# Altium footprint library moya.PcbLib: 46 footprints (part 1 of 3)
Each footprint in its own frame and in the unit in brackets; x right, y up, seen from the top. Pads: shape width x height; smd on the part's side, far side on the other; paste and mask are expansions set on the pad; w line width, h text height; cw(c..) or ccw(c..) is an arc to the next point about the centre after c.
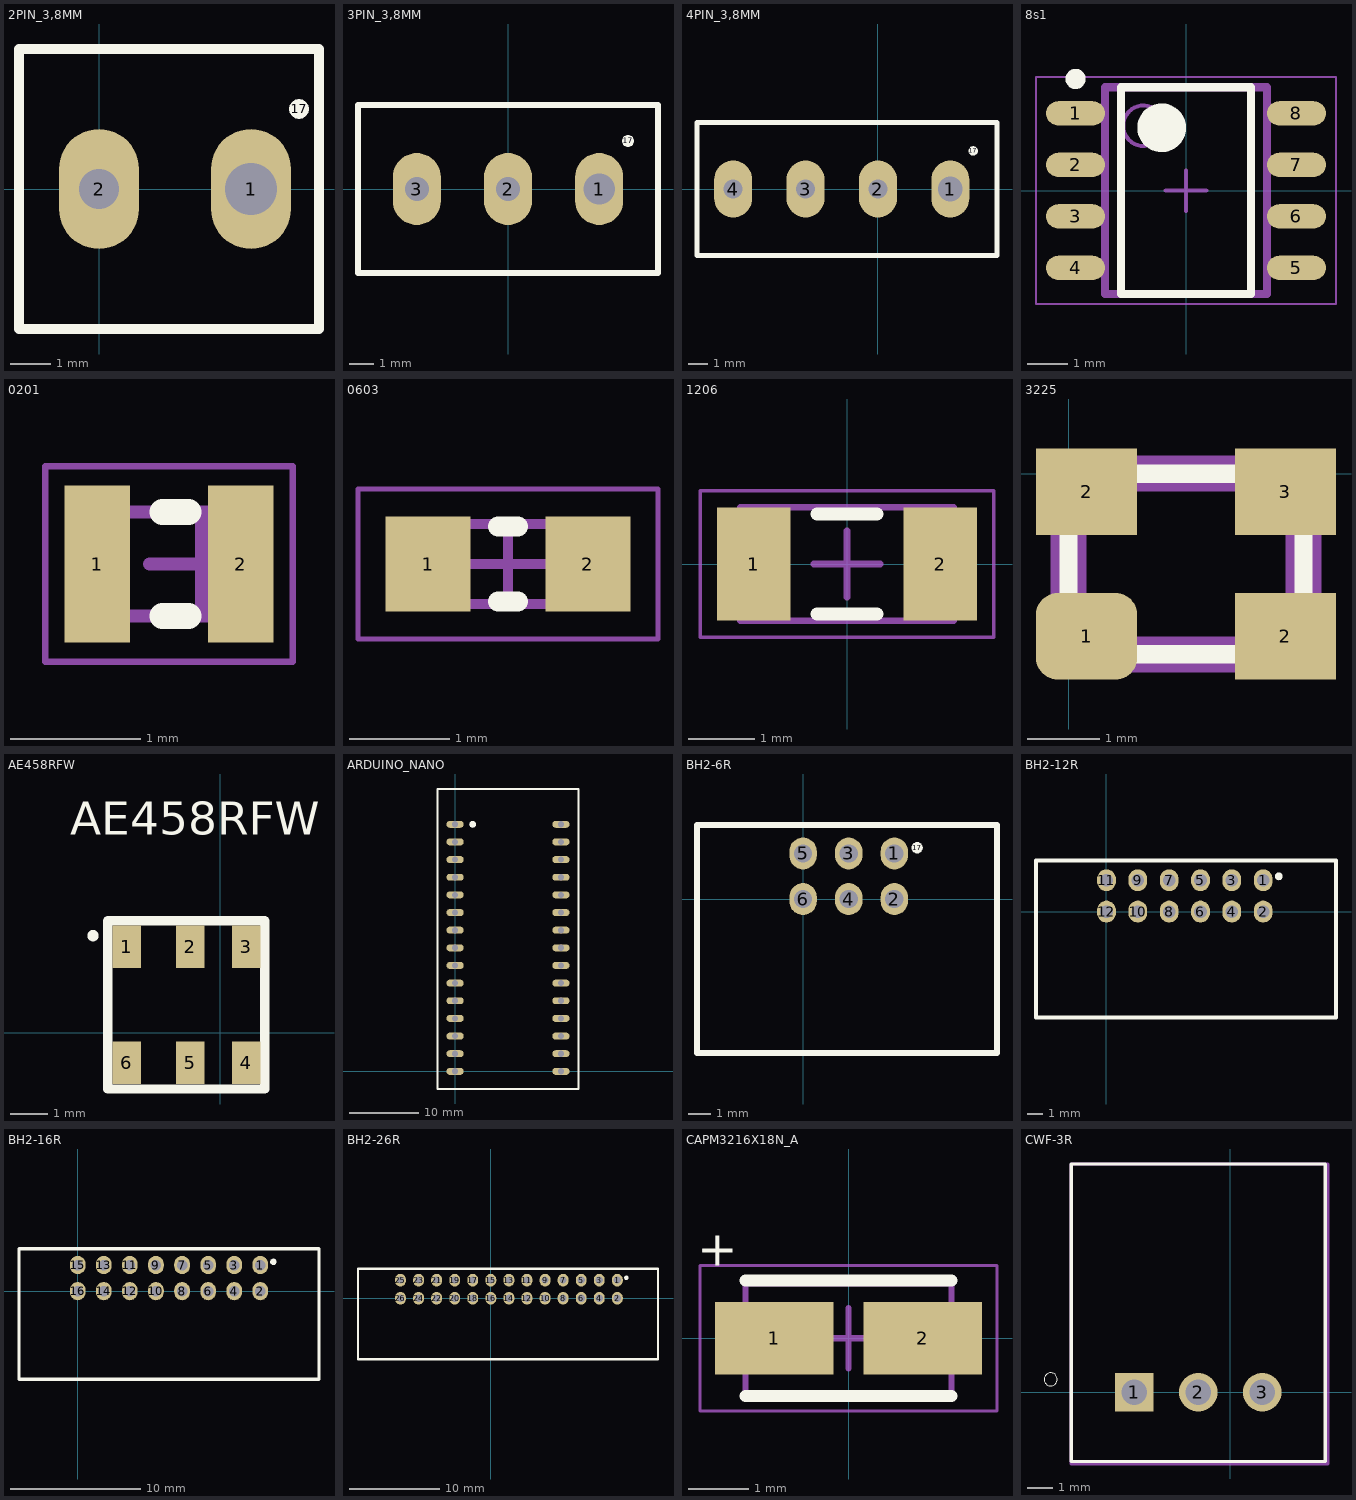
[diagram p0: the footprints below, top view; thin cyan lines are the x and y axes]

## 2PIN_3,8MM [mm]
pads (3):
  oval 2x3 hole 1.3: 1(3.8,0)
  oval 2x3 hole 1: 2(0,0)
  round 0.5 on Top Overlay: 17(5,2)
Top Overlay:
  lines w0.254: -2,-3.5 -2,3.5 5.5,3.5 5.5,-3.5 -2,-3.5
3D body "User Library-KLS2-340-3_81-1.STEP": height 8.5, standoff -3.17, extent -2.415,-3.5 6.205,3.5

## 3PIN_3,8MM [mm]
pads (4):
  oval 2x3 hole 1.3: 1(3.8,0)
  oval 2x3 hole 1: 2(0,0) 3(-3.8,0)
  round 0.5 on Top Overlay: 17(5,2)
Top Overlay:
  lines w0.254: -6.25,-3.5 6.25,-3.5 6.25,3.5 -6.25,3.5 -6.25,-3.5
3D body "User Library-KLS2-340-3_81.STEP": height 8.6, standoff -3.07, extent -6.215,-3.5 6.215,3.5

## 4PIN_3,8MM [mm]
pads (5):
  oval 2x3 hole 1.3: 1(3.8,0)
  oval 2x3 hole 1: 2(0,0) 3(-3.8,0) 4(-7.6,0)
  round 0.5 on Top Overlay: 17(5,2)
Top Overlay:
  lines w0.254: -9.5,-3.5 6.25,-3.5 6.25,3.5 -9.5,3.5 -9.5,-3.5
3D body "User Library-KLS2-340-3_81.STEP": height 8.6, standoff -3.07, extent -6.215,-3.5 6.215,3.5

## 8s1 [mm] "SOIC, 8-Leads, Body 4.92x3.90mm, Pitch 1.27mm, IPC Medium Density"
height 1.35
pads (8):
  oval 1.45x0.6 smd: 1(-2.725,1.905) 2(-2.725,0.635) 3(-2.725,-0.635) 4(-2.725,-1.905) 5(2.725,-1.905) 6(2.725,-0.635) 7(2.725,0.635) 8(2.725,1.905)
Top Overlay:
  circle w0.6: c-0.6,1.55 r0.3
  circle w0.25: c-2.725,2.755 r0.125
  lines w0.2: -1.6,-2.55 1.6,-2.55 1.6,2.55 -1.6,2.55 -1.6,-2.55
Mechanical 13:
  circle w0.1: c-1.05,1.6 r0.5
  lines w0.2: -2,-2.55 2,-2.55 2,2.55 -2,2.55 -2,-2.55
Mechanical 15:
  lines w0.05: -3.7,-2.8 3.7,-2.8 3.7,2.8 -3.7,2.8 -3.7,-2.8
  lines w0.1: -0.5,0 0.5,0 ; 0,-0.5 0,0.5
3D body: height 1.75, standoff 1.35, extent -2,-2.55 2,2.55

## 0201 [mm]
height 0.8
pads (2):
  rect 0.5x1.2 smd: 1(-4,1.9) 2(-2.9,1.9)
Top Overlay:
  lines w0.2: -3.5,1.5 -3.3,1.5 ; -3.5,2.3 -3.3,2.3
Mechanical 13:
  lines w0.1: -4.05,1.5 -4.05,2.3 -2.9,2.3 -2.9,1.5 -4.05,1.5
Mechanical 15:
  lines w0.05: -4.4,1.15 -4.4,2.65 -2.5,2.65 -2.5,1.15 -4.4,1.15
  lines w0.1: -3.6,1.9 -2.8,1.9 ; -3.2,1.5 -3.2,2.3
3D body: height 0.8, standoff 0, extent -3.1,1.5 -2.7,2.3
3D body: height 0.8, standoff 0, extent -3.65,1.5 -3.1,2.3
3D body: height 0.8, standoff 0, extent -4,1.5 -3.65,2.3

## 0603 [mm]
height 0.8
pads (2):
  rect 0.85x0.95 smd: 1(-4,1.9) 2(-2.4,1.9)
Top Overlay:
  lines w0.2: -3.3,1.525 -3.1,1.525 ; -3.3,2.275 -3.1,2.275
Mechanical 13:
  lines w0.1: -4.05,1.5 -2.35,1.5 -2.35,2.3 -4.05,2.3 -4.05,1.5
Mechanical 15:
  lines w0.05: -4.7,1.15 -1.7,1.15 -1.7,2.65 -4.7,2.65 -4.7,1.15
  lines w0.1: -3.6,1.9 -2.8,1.9 ; -3.2,1.5 -3.2,2.3
3D body: height 0.8, standoff 0, extent -2.75,1.5 -2.35,2.3
3D body: height 0.8, standoff 0, extent -4.05,1.5 -3.65,2.3
3D body: height 0.8, standoff 0, extent -3.65,1.5 -2.75,2.3

## 1206 [mm] "Chip Resistor"
height 0.55
pads (2):
  rect 1.1x1.7 smd: 1(-1.4,0) 2(1.4,0)
Top Overlay:
  lines w0.2: -0.45,-0.75 0.45,-0.75 ; -0.45,0.75 0.45,0.75
Mechanical 13:
  lines w0.1: -1.6,-0.85 -1.6,0.85 1.6,0.85 1.6,-0.85 -1.6,-0.85
Mechanical 15:
  lines w0.05: -2.2,-1.1 -2.2,1.1 2.2,1.1 2.2,-1.1 -2.2,-1.1
  lines w0.1: -0.5,0 0.5,0 ; 0,-0.5 0,0.5
3D body: height 0.55, standoff 0, extent -1,-0.85 1,0.85
3D body: height 0.55, standoff 0, extent -1.6,-0.85 -1,0.85
3D body: height 0.55, standoff 0, extent 1,-0.85 1.6,0.85

## 3225 [mm]
pads (4):
  rrect50% 1.4x1.2 smd: 1(0.25,-2.25)
  rect 1.4x1.2 smd: 2(0.25,-0.25) 2(3,-2.25) 3(3,-0.25)
Top Overlay:
  lines w0.254: 0,-2.5 0,0 3.25,0 3.25,-2.5 0,-2.5
Mechanical 13:
  lines w0.5: 3.25,-2.5 0,-2.5 0,0 3.25,0 3.25,-2.25
3D body: height 0.7, standoff 0, extent 0.25,-2.5 3.25,0

## AE458RFW [mm] "DFN, 4-Leads, Body 3.80x3.80mm, Pitch 3.80mm, IPC Medium Density"
height 0.45
pads (6):
  rect 0.76x1.14 smd: 1(-2.5,2.3) 2(-0.8,2.3) 3(0.7,2.3) 4(0.7,-0.8) 5(-0.8,-0.8) 6(-2.5,-0.8)
Top Overlay:
  circle w0.2: c-3.4,2.6 r0.05
  lines w0.254: -3,-1.5 1.2,-1.5 ; -3,-1.45 -3,3 1.2,3 1.2,-1.45
  text "AE458RFW" at -4,5 h1.52
3D body: height 0.45, standoff 0, extent -2.8,-1.1 1,2.7

## ARDUINO_NANO [mm]
pads (31):
  oval 2.5x1 hole 0.9 unplated paste+0: 1(0,35.56) 2(0,33.02) 3(0,30.48) 4(0,27.94) 5(0,25.4) 6(0,22.86) 7(0,20.32) 8(0,17.78) 9(0,15.24) 10(0,12.7) 11(0,10.16) 12(0,7.62) 13(0,5.08) 14(0,2.54) 15(0,0) 16(15.24,0) 17(15.24,2.54) 18(15.24,5.08) 19(15.24,7.62) 20(15.24,10.16) 21(15.24,12.7) 22(15.24,15.24) 23(15.24,17.78) 24(15.24,20.32) 25(15.24,22.86) 26(15.24,25.4) 27(15.24,27.94) 28(15.24,30.48) 29(15.24,33.02) 30(15.24,35.56)
  round 1 on Top Overlay paste+0: 10(2.54,35.56)
Top Overlay:
  lines w0.254: -2.54,-2.54 -2.54,40.64 17.78,40.64 17.78,-2.54 -2.54,-2.54

## BH2-6R [mm]
pads (7):
  oval 1.2x1.4 hole 0.8: 1(4,2) 2(4,0) 3(2,2) 4(2,0) 5(0,2) 6(0,0)
  round 0.5 on Top Overlay: 17(5,2.25)
Top Overlay:
  lines w0.254: -4.65,-6.75 -4.65,3.25 8.5,3.25 8.5,-6.75 -4.65,-6.75
3D body "6_PIN.STEP": height 5.4, standoff 0, extent -4.607,-6.559 8.493,2.561

## BH2-12R [mm]
pads (13):
  oval 1.2x1.4 hole 0.8: 1(10,2) 2(10,0) 3(8,2) 4(8,0) 5(6,2) 6(6,0) 7(4,2) 8(4,0) 9(2,2) 10(2,0) 11(0,2) 12(0,0)
  round 0.5 on Top Overlay: 17(11,2.25)
Top Overlay:
  lines w0.254: -4.5,-6.75 14.65,-6.75 14.65,3.25 -4.5,3.25 -4.5,-6.75
3D body "12_PIN.STEP": height 5.4, standoff 0, extent -4.425,-6.62 14.575,2.5

## BH2-16R [mm]
pads (17):
  oval 1.2x1.4 hole 0.8: 1(14,2) 2(14,0) 3(12,2) 4(12,0) 5(10,2) 6(10,0) 7(8,2) 8(8,0) 9(6,2) 10(6,0) 11(4,2) 12(4,0) 13(2,2) 14(2,0) 15(0,2) 16(0,0)
  round 0.5 on Top Overlay: 17(15,2.25)
Top Overlay:
  lines w0.254: -4.5,-6.75 18.5,-6.75 18.5,3.25 -4.5,3.25 -4.5,-6.75
3D body "16_PIN.STEP": height 5.4, standoff 0, extent -4.557,-6.609 18.443,2.511

## BH2-26R [mm]
pads (27):
  oval 1.2x1.4 hole 0.8: 1(14,2) 2(14,0) 3(12,2) 4(12,0) 5(10,2) 6(10,0) 7(8,2) 8(8,0) 9(6,2) 10(6,0) 11(4,2) 12(4,0) 13(2,2) 14(2,0) 15(0,2) 16(0,0) 17(-2,2) 18(-2,0) 19(-4,2) 20(-4,0) 21(-6,2) 22(-6,0) 23(-8,2) 24(-8,0) 25(-10,2) 26(-10,0)
  round 0.5 on Top Overlay: 17(15,2.25)
Top Overlay:
  lines w0.254: -14.7,-6.75 18.5,-6.75 18.5,3.25 -14.7,3.25 -14.7,-6.75
3D body "26_PIN.STEP": height 5.4, standoff 0, extent -14.6,-6.7 18.5,2.42

## CAPM3216X18N_A [mm] "Molded Capacitor, 2-Leads, Body 3.20x1.60mm, IPC Medium Density"
height 1.8
pads (2):
  rect 1.95x1.2 smd: 1(-1.225,0) 2(1.225,0)
Top Overlay:
  lines w0.2: -1.7,-0.95 1.7,-0.95 ; -1.7,0.95 1.7,0.95
  text "+" at -2.5,1 h1
Mechanical 13:
  lines w0.1: -1.7,-0.9 1.7,-0.9 1.7,0.9 -1.7,0.9 -1.7,-0.9
Mechanical 15:
  lines w0.05: -2.45,-1.2 2.45,-1.2 2.45,1.2 -2.45,1.2 -2.45,-1.2
  lines w0.1: -0.5,0 0.5,0 ; 0,-0.5 0,0.5
3D body: height 1.8, standoff 0, extent -1.7,-0.9 1.7,0.9

## CWF-3R [mm]
pads (3):
  rect 1.508x1.508 hole 1: 1(-3.75,0)
  round 1.508 hole 1: 2(-1.25,0) 3(1.25,0)
Top Overlay:
  circle w0: c-7,0.5 r0.254
  lines w0.127: -6.2,-2.7 -6.2,8.9 3.7,8.9 3.7,-2.7 -6.2,-2.7
Mechanical 16:
  lines w0.127: -6.2,-2.8 -6.2,8.9 3.8,8.9 3.8,-2.8 -6.2,-2.8
3D body "User Library-DS1069-3 CWF-3R.STEP": height 5.75, standoff -3.5, extent -6.25,-2.62 3.75,8.88